# EAGLE library part EPM7160-84 (library fpgas)
EPM7160E MAX 7000 family
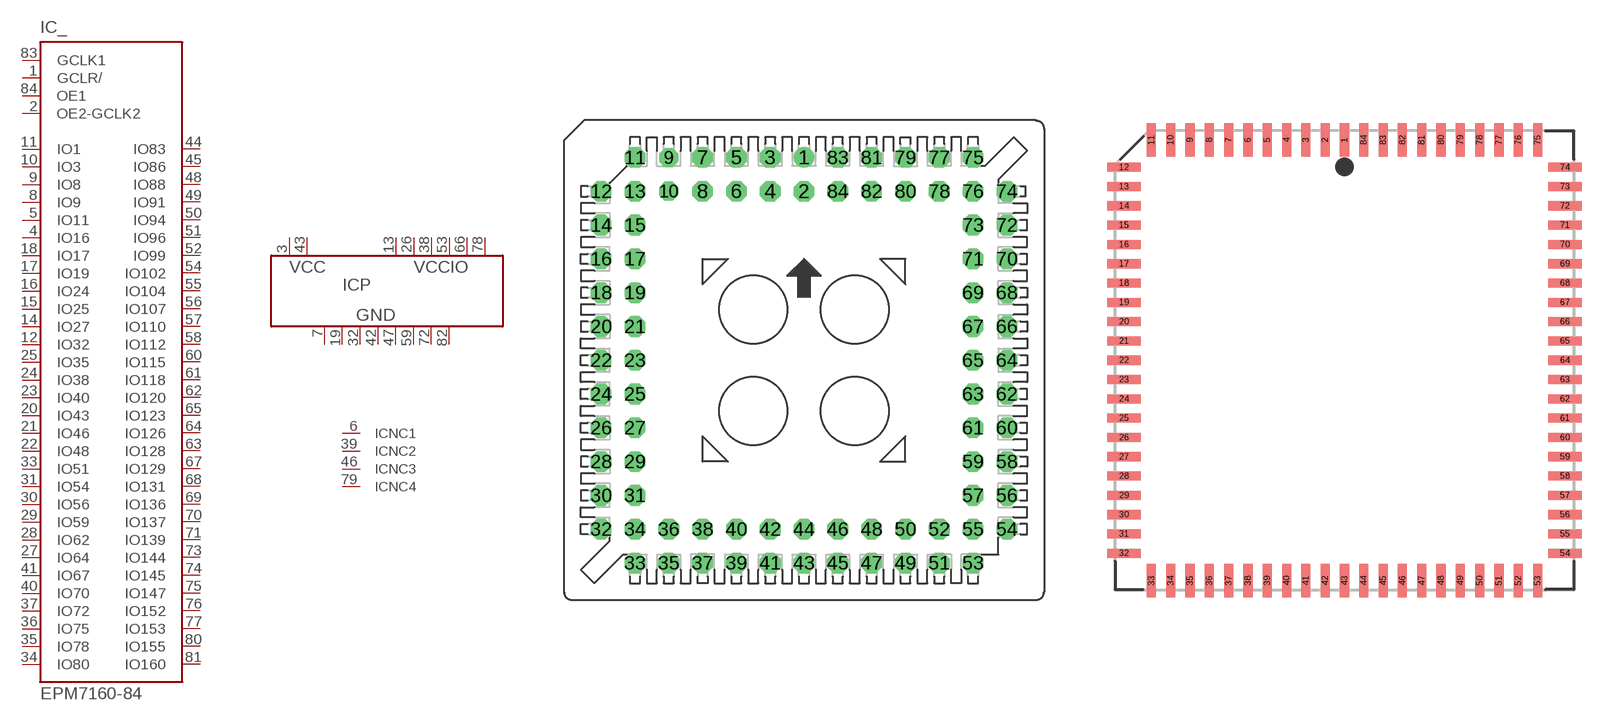
[diagram p0: symbol with the pads of PLCC84SOCK; footprints PLCC84SOCK, PLCC84]

Designator prefix IC; gates NC1=NC NC2=NC NC3=NC NC4=NC P=PWR8-2-6 _=7160-J84

## EPM7160-84  [PLCC84SOCK]
1  _:GCLR/  in
2  _:OE2-GCLK2  in
3  P:VCC  pwr
4  _:IO16
5  _:IO11
6  NC1:NC  nc
7  P:GND  pwr
8  _:IO9
9  _:IO8
10  _:IO3
11  _:IO1
12  _:IO32
13  P:VCCIO  pwr
14  _:IO27
15  _:IO25
16  _:IO24
17  _:IO19
18  _:IO17
19  P:GND  pwr
20  _:IO43
21  _:IO46
22  _:IO48
23  _:IO40
24  _:IO38
25  _:IO35
26  P:VCCIO  pwr
27  _:IO64
28  _:IO62
29  _:IO59
30  _:IO56
31  _:IO54
32  P:GND  pwr
33  _:IO51
34  _:IO80
35  _:IO78
36  _:IO75
37  _:IO72
38  P:VCCIO  pwr
39  NC2:NC  nc
40  _:IO70
41  _:IO67
42  P:GND  pwr
43  P:VCC  pwr
44  _:IO83
45  _:IO86
46  NC3:NC  nc
47  P:GND  pwr
48  _:IO88
49  _:IO91
50  _:IO94
51  _:IO96
52  _:IO99
53  P:VCCIO  pwr
54  _:IO102
55  _:IO104
56  _:IO107
57  _:IO110
58  _:IO112
59  P:GND  pwr
60  _:IO115
61  _:IO118
62  _:IO120
63  _:IO128
64  _:IO126
65  _:IO123
66  P:VCCIO  pwr
67  _:IO129
68  _:IO131
69  _:IO136
70  _:IO137
71  _:IO139
72  P:GND  pwr
73  _:IO144
74  _:IO145
75  _:IO147
76  _:IO152
77  _:IO153
78  P:VCCIO  pwr
79  NC4:NC  nc
80  _:IO155
81  _:IO160
82  P:GND  pwr
83  _:GCLK1  in
84  _:OE1  in

## EPM7160-841  [PLCC84]
Pads as for PLCC84SOCK

## Footprint PLCC84SOCK (pad centres in mm)
PLCC 84 socked
drill 0.7 pad 1.55: 1 0,15.24
drill 0.7 pad 1.55 octagon: 2 0,12.7; 3 -2.54,15.24; 4 -2.54,12.7; 5 -5.08,15.24; 6 -5.08,12.7; 7 -7.62,15.24; 8 -7.62,12.7; 11 -12.7,15.24; 12 -15.24,12.7; 13 -12.7,12.7; 14 -15.24,10.16; 15 -12.7,10.16; 16 -15.24,7.62; 17 -12.7,7.62; 18 -15.24,5.08; 19 -12.7,5.08; 20 -15.24,2.54; 21 -12.7,2.54; 22 -15.24,0; 23 -12.7,0; 24 -15.24,-2.54; 25 -12.7,-2.54; 26 -15.24,-5.08; 27 -12.7,-5.08; 28 -15.24,-7.62; 29 -12.7,-7.62; 30 -15.24,-10.16; 31 -12.7,-10.16; 32 -15.24,-12.7; 33 -12.7,-15.24; 34 -12.7,-12.7; 35 -10.16,-15.24; 36 -10.16,-12.7; 37 -7.62,-15.24; 38 -7.62,-12.7; 39 -5.08,-15.24; 40 -5.08,-12.7; 41 -2.54,-15.24; 42 -2.54,-12.7; 43 0,-15.24; 44 0,-12.7; 45 2.54,-15.24; 46 2.54,-12.7; 47 5.08,-15.24; 48 5.08,-12.7; 49 7.62,-15.24; 50 7.62,-12.7; 51 10.16,-15.24; 52 10.16,-12.7; 53 12.7,-15.24; 54 15.24,-12.7; 55 12.7,-12.7; 56 15.24,-10.16; 57 12.7,-10.16; 58 15.24,-7.62; 59 12.7,-7.62; 60 15.24,-5.08; 61 12.7,-5.08; 62 15.24,-2.54; 63 12.7,-2.54; 64 15.24,0; 65 12.7,0; 66 15.24,2.54; 67 12.7,2.54; 68 15.24,5.08; 69 12.7,5.08; 70 15.24,7.62; 71 12.7,7.62; 72 15.24,10.16; 73 12.7,10.16; 74 15.24,12.7; 75 12.7,15.24; 76 12.7,12.7; 77 10.16,15.24; 78 10.16,12.7; 79 7.62,15.24; 80 7.62,12.7; 81 5.08,15.24; 82 5.08,12.7; 83 2.54,15.24; 84 2.54,12.7
drill 0.7 pad 1.422 octagon: 9 -10.16,15.24; 10 -10.16,12.7

## Footprint PLCC84 (pad centres in mm)
Plastic J-Lead Chip Carrier
smd 0.6 x 2.2: 1 0,14.5; 2 -1.27,14.5; 3 -2.54,14.5; 4 -3.81,14.5; 5 -5.08,14.5; 6 -6.35,14.5; 7 -7.62,14.5; 8 -8.89,14.5; 9 -10.16,14.5; 10 -11.43,14.5; 11 -12.7,14.5; 33 -12.7,-14.5; 34 -11.43,-14.5; 35 -10.16,-14.5; 36 -8.89,-14.5; 37 -7.62,-14.5; 38 -6.35,-14.5; 39 -5.08,-14.5; 40 -3.81,-14.5; 41 -2.54,-14.5; 42 -1.27,-14.5; 43 0,-14.5; 44 1.27,-14.5; 45 2.54,-14.5; 46 3.81,-14.5; 47 5.08,-14.5; 48 6.35,-14.5; 49 7.62,-14.5; 50 8.89,-14.5; 51 10.16,-14.5; 52 11.43,-14.5; 53 12.7,-14.5; 75 12.7,14.5; 76 11.43,14.5; 77 10.16,14.5; 78 8.89,14.5; 79 7.62,14.5; 80 6.35,14.5; 81 5.08,14.5; 82 3.81,14.5; 83 2.54,14.5; 84 1.27,14.5
smd 2.2 x 0.6: 12 -14.5,12.7; 13 -14.5,11.43; 14 -14.5,10.16; 15 -14.5,8.89; 16 -14.5,7.62; 17 -14.5,6.35; 18 -14.5,5.08; 19 -14.5,3.81; 20 -14.5,2.54; 21 -14.5,1.27; 22 -14.5,0; 23 -14.5,-1.27; 24 -14.5,-2.54; 25 -14.5,-3.81; 26 -14.5,-5.08; 27 -14.5,-6.35; 28 -14.5,-7.62; 29 -14.5,-8.89; 30 -14.5,-10.16; 31 -14.5,-11.43; 32 -14.5,-12.7; 54 14.5,-12.7; 55 14.5,-11.43; 56 14.5,-10.16; 57 14.5,-8.89; 58 14.5,-7.62; 59 14.5,-6.35; 60 14.5,-5.08; 61 14.5,-3.81; 62 14.5,-2.54; 63 14.5,-1.27; 64 14.5,0; 65 14.5,1.27; 66 14.5,2.54; 67 14.5,3.81; 68 14.5,5.08; 69 14.5,6.35; 70 14.5,7.62; 71 14.5,8.89; 72 14.5,10.16; 73 14.5,11.43; 74 14.5,12.7